# EAGLE library part 93AA46 (library microchip)
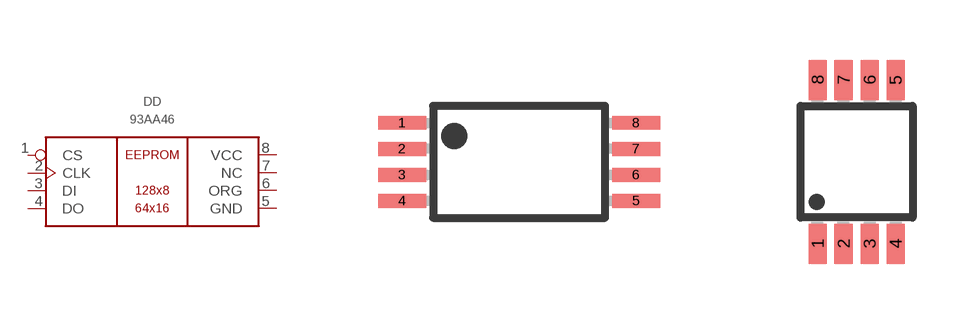
[diagram p6: symbol with the pads of TSSOP8; footprints TSSOP8, MSOP8]

Designator prefix DD

## 93AA46CT-I/ST  [TSSOP8]
1  CS  in
2  CLK  in
3  DI  in
4  DO  out
5  GND  pwr
6  ORG  in
7  NC  nc
8  VCC  pwr

## 93AA46C-I/MS  [MSOP8]
Pads as for TSSOP8

## Footprint TSSOP8 (pad centres in mm)
Plastic Small Outline
smd 1.2 x 0.35: 1 -2.925,0.975; 2 -2.925,0.325; 3 -2.925,-0.325; 4 -2.925,-0.975; 5 2.925,-0.975; 6 2.925,-0.325; 7 2.925,0.325; 8 2.925,0.975

## Footprint MSOP8 (pad centres in mm)
Micro Small Outline Package Grid .65mm
smd 0.45 x 1: 1 -0.975,-2.05; 2 -0.325,-2.05; 3 0.325,-2.05; 4 0.975,-2.05; 5 0.975,2.05; 6 0.325,2.05; 7 -0.325,2.05; 8 -0.975,2.05